# EAGLE library part TEXAS_INSTRUMENTS-BUCK_CONVERTER-TPS54202DDCR (library Module_Regulators)
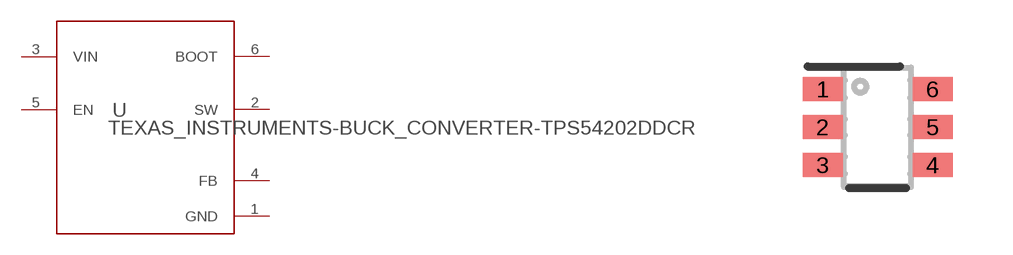
[diagram p34: symbol with the pads of TEXAS_INSTRUMENTS-BUCK_CONVERTER_TPS54202DDCR; footprint TEXAS_INSTRUMENTS-BUCK_CONVERTER_TPS54202DDCR]

Designator prefix U

## TEXAS_INSTRUMENTS-BUCK_CONVERTER-TPS54202DDCR (MANUFACTURER: Texas Instruments; PARTNUMBER: TPS54202DDCR; REFDES: RefDes; TYPE: TYPE; VALUE: Value)  [TEXAS_INSTRUMENTS-BUCK_CONVERTER_TPS54202DDCR]
1  GND  pwr
2  SW  pwr
3  VIN  pwr
4  FB  in
5  EN  in
6  BOOT  pwr

## Footprint TEXAS_INSTRUMENTS-BUCK_CONVERTER_TPS54202DDCR (pad centres in mm)
smd 1 x 0.6: 1 -1.375,0.95; 2 -1.375,0; 3 -1.375,-0.95; 4 1.375,-0.95; 5 1.375,0; 6 1.375,0.95